# EAGLE library part TERM_6PIN (library tigorcustom)
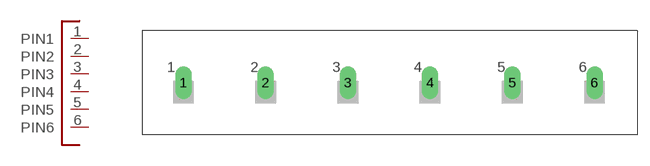
[diagram p3: symbol with the pads of TERM_6PIN; footprint TERM_6PIN]

Designator prefix -

## TERM_6PIN  [TERM_6PIN]
1  PIN1
2  PIN2
3  PIN3
4  PIN4
5  PIN5
6  PIN6

## Footprint TERM_6PIN (pad centres in mm)
CONNECTOR
drill 1.321 long: 1 -27.508,0; 2 -17.501,0; 3 -7.493,0; 4 2.489,0; 5 12.497,0; 6 22.504,0